# Altium schematic symbol library IHLP2020CZER3R3M11.SchLib: 1 symbol
Pins are listed as number, name and electrical type; pins without a type are passive.

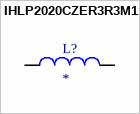
[diagram p0: symbol IHLP2020CZER3R3M11]

## IHLP2020CZER3R3M11
designator L?
3.3ÂµH Shielded Molded Inductor 5.5A 40.4mOhm Max Nonstandard; MP: IHLP2020CZER3R3M11; MF: {'manufacturer': u'Vishay Dale'}; Package: None; Availability: Unavailable; Value: *; Price: None
footprint IHLP-2020CZ-11
pins: P$1 (io), P$2 (io)